# EAGLE library part LSM9DS1TR_IMU (library Base)
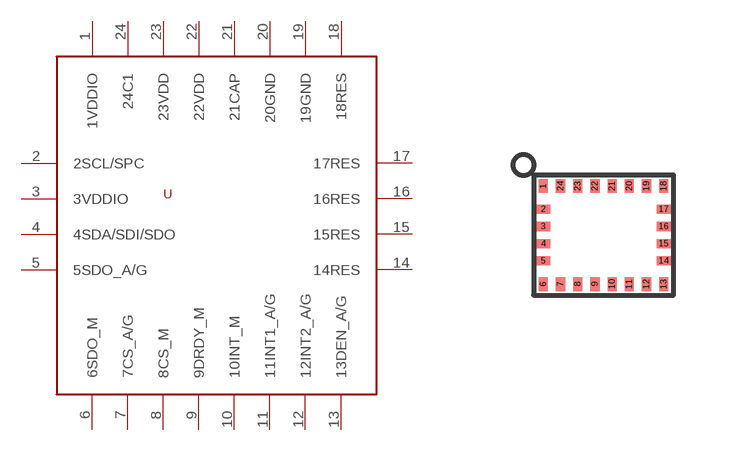
[diagram p4: symbol with the pads of LGA-24; footprint LGA-24]

Designator prefix -

## LSM9DS1TR_IMU  [LGA-24]
1  1VDDIO
2  2SCL/SPC
3  3VDDIO
4  4SDA/SDI/SDO
5  5SDO_A/G
6  6SDO_M
7  7CS_A/G
8  8CS_M
9  9DRDY_M
10  10INT_M
11  11INT1_A/G
12  12INT2_A/G
13  13DEN_A/G
14  14RES
15  15RES
16  16RES
17  17RES
18  18RES
19  19GND
20  20GND
21  21CAP
22  22VDD
23  23VDD
24  24C1

## Footprint LGA-24 (pad centres in mm)
smd 0.23 x 0.35: 1 0.245,2.725; 6 0.245,0.275; 7 0.675,0.275; 8 1.105,0.275; 9 1.535,0.275; 10 1.965,0.275; 11 2.395,0.275; 12 2.825,0.275; 13 3.255,0.275; 18 3.255,2.725; 19 2.825,2.725; 20 2.395,2.725; 21 1.965,2.725; 22 1.535,2.725; 23 1.105,2.725; 24 0.675,2.725
smd 0.35 x 0.23: 2 0.245,2.145; 3 0.245,1.715; 4 0.245,1.285; 5 0.245,0.855; 14 3.255,0.855; 15 3.255,1.285; 16 3.255,1.715; 17 3.255,2.145